# Altium footprint library Crystals.PcbLib: 10 footprints
Each footprint in its own frame and in the unit in brackets; x right, y up, seen from the top. Pads: shape width x height; smd on the part's side, far side on the other; paste and mask are expansions set on the pad; w line width, h text height; cw(c..) or ccw(c..) is an arc to the next point about the centre after c.
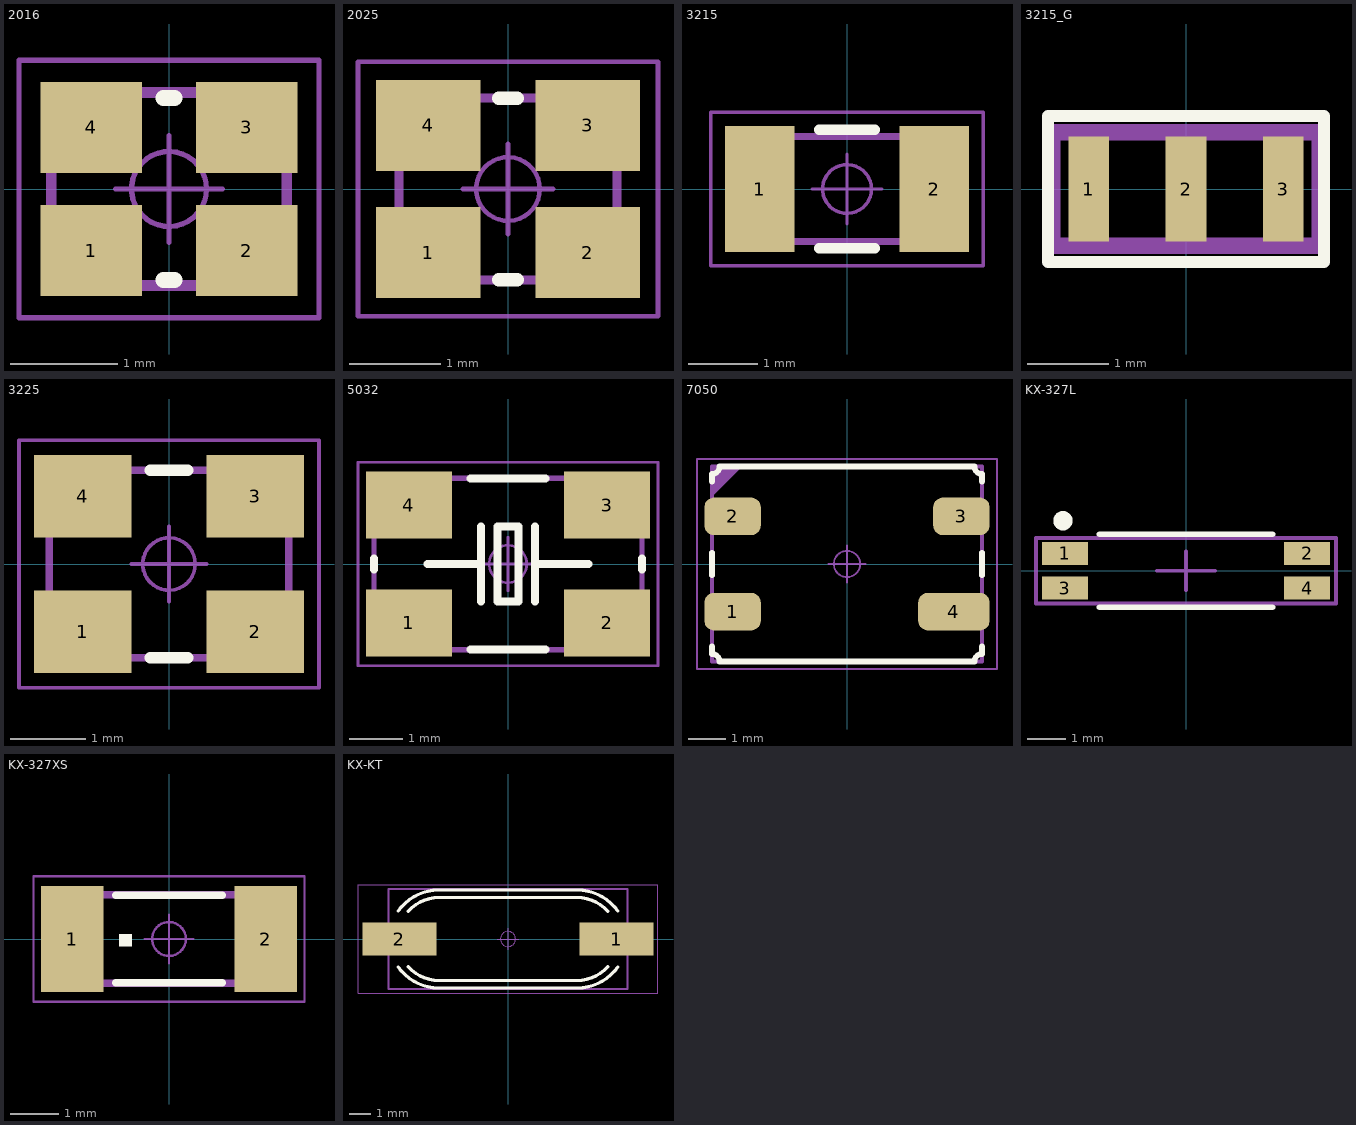
[diagram p0: the footprints below, top view; thin cyan lines are the x and y axes]

## 2016 [mm] "Crystal 2.0 x 1.6 mm"
height 0.5
pads (4):
  rect 0.95x0.85 smd: 1(-0.725,-0.575) 2(0.725,-0.575) 3(0.725,0.575) 4(-0.725,0.575)
Top Overlay:
  lines w0.15: -0.05,-0.85 0.05,-0.85 ; -0.05,0.85 0.05,0.85
Mechanical 14:
  region: -1.1,-0.9 -0.3,-0.9 -1.1,-0.1
  lines w0.1: -1.1,-0.9 1.1,-0.9 1.1,0.9 -1.1,0.9 -1.1,-0.9
  text ".Designator" at -0.7,-0.2 h0.5
Mechanical 15:
  circle w0.05: c0,0 r0.35
  lines w0.05: -0.5,0 0.5,0 ; 0,-0.5 0,0.5 ; -1.4,-1.2 -1.4,1.2 1.4,1.2 1.4,-1.2 -1.4,-1.2
3D body "User Library-GeyerElectronics_KX5.step": height 0.56, standoff 0, extent -1.05,-0.85 1.05,0.85

## 2025 [mm]
pads (4):
  rect 1.15x1 smd: 1(-0.875,-0.7) 2(0.875,-0.7) 3(0.875,0.7) 4(-0.875,0.7)
Top Overlay:
  lines w0.15: -0.1,-1 0.1,-1 ; -0.1,1 0.1,1
Mechanical 14:
  region: -1.2,-1 -0.4,-1 -1.2,-0.2
  lines w0.1: -1.2,-1 -1.2,1 1.2,1 1.2,-1 -1.2,-1
  text ".Designator" at -0.8,-0.3 h0.6
Mechanical 15:
  circle w0.05: c0,0 r0.35
  lines w0.05: -0.5,0 0.5,0 ; 0,-0.5 0,0.5 ; -1.65,-1.4 -1.65,1.4 1.65,1.4 1.65,-1.4 -1.65,-1.4
3D body "2520.step": height 0.55, standoff 0, extent -1.25,-1 1.25,1

## 3215 [mm]
pads (2):
  rect 1x1.8 smd: 1(-1.25,0) 2(1.25,0)
Top Overlay:
  lines w0.15: -0.4,-0.85 0.4,-0.85 ; -0.4,0.85 0.4,0.85
Mechanical 14:
  lines w0.1: -1.6,-0.55 cw(c-1.6,-0.75) -1.4,-0.75 1.4,-0.75 cw(c1.6,-0.75) 1.6,-0.55 1.6,0.55 cw(c1.6,0.75) 1.4,0.75 -1.4,0.75 cw(c-1.6,0.75) -1.6,0.55 -1.6,-0.55
  text ".Designator" at -0.8,-0.35 h0.7
Mechanical 15:
  circle w0.05: c0,0 r0.35
  lines w0.05: -0.5,0 0.5,0 ; 0,-0.5 0,0.5 ; -1.95,-1.1 -1.95,1.1 1.95,1.1 1.95,-1.1 -1.95,-1.1
3D body "User Library-Siward_SX3215.step": height 0.81, standoff 0, extent -1.6,-0.75 1.6,0.75

## 3215_G [mm] "Murata crystal built-in capacitors"
height 0.7
pads (3):
  rect 0.5x1.3 smd: 1(-1.2,0) 2(0,0) 3(1.2,0)
Top Overlay:
  lines w0.15: -1.7,-0.9 -1.7,0.9 1.7,0.9 1.7,-0.9 -1.7,-0.9
Mechanical 14:
  lines w0.2: -1.65,-0.7 -1.65,0.7 1.65,0.7 1.65,-0.7 -1.65,-0.7
  text ".Designator" at -0.8,-0.25 h0.7
3D body "Crystal 3213.stp": height 0.7, standoff -0.01, extent -1.6,-0.67 1.6,0.67

## 3225 [mm]
pads (4):
  rect 1.3x1.1 smd: 1(-1.15,-0.9) 2(1.15,-0.9) 3(1.15,0.9) 4(-1.15,0.9)
Top Overlay:
  lines w0.15: -0.25,-1.25 0.25,-1.25 ; -0.25,1.25 0.25,1.25
Mechanical 14:
  region: -1.6,-1.25 -0.8,-1.25 -1.6,-0.45
  lines w0.1: -1.6,-1.25 1.6,-1.25 1.6,1.25 -1.6,1.25 -1.6,-1.25
  text ".Designator" at -0.8,-0.3 h0.6
Mechanical 15:
  circle w0.05: c0,0 r0.35
  lines w0.05: -0.5,0 0.5,0 ; 0,-0.5 0,0.5 ; -2,-1.65 2,-1.65 2,1.65 -2,1.65 -2,-1.65
3D body "GeyerElectronics_KX7.step": height 0.81, standoff 0, extent -1.607,-1.25 1.607,1.25

## 5032 [mm]
pads (4):
  rect 1.6x1.25 smd: 1(-1.85,-1.1) 2(1.85,-1.1) 3(1.85,1.1) 4(-1.85,1.1)
Top Overlay:
  lines w0.15: -2.5,-0.1 -2.5,0.1 ; -1.5,0 -0.5,0 ; -0.7,-1.6 0.7,-1.6 ; -0.7,1.6 0.7,1.6 ; -0.5,-0.7 -0.5,0.7 ; 0.5,-0.7 0.5,0.7 ; 0.5,0 1.5,0 ; 2.5,-0.1 2.5,0.1 ; -0.2,-0.7 0.2,-0.7 0.2,0.7 -0.2,0.7 -0.2,-0.7
Mechanical 14:
  region: -2.5,-1.6 -1.7,-1.6 -2.5,-0.8
  lines w0.1: -2.5,-1.6 2.5,-1.6 2.5,1.6 -2.5,1.6 -2.5,-1.6
  text ".Designator" at -1.4,-0.4 h0.75
Mechanical 15:
  circle w0.05: c0,0 r0.35
  lines w0.05: -0.5,0 0.5,0 ; 0,-0.5 0,0.5 ; -2.8,-1.9 2.8,-1.9 2.8,1.9 -2.8,1.9 -2.8,-1.9
3D body "KX9A.STEP": height 1.01, standoff 0, extent -2.5,-1.6 2.5,1.6

## 7050 [mm] "Crystal resonator"
pads (4):
  rrect50% 1.5x1 smd: 1(-3.05,-1.27) 2(-3.05,1.27) 3(3.05,1.27)
  rrect50% 1.9x1 smd: 4(2.85,-1.27)
Top Overlay:
  lines w0.15: -3.6,-2.2 -3.6,-2.4 cw(c-3.6,-2.6) -3.4,-2.6 3.4,-2.6 cw(c3.6,-2.6) 3.6,-2.4 3.6,-2.2 ; -3.6,-0.3 -3.6,0.3 ; -3.6,2.2 -3.6,2.4 ccw(c-3.6,2.6) -3.4,2.6 3.4,2.6 ccw(c3.6,2.6) 3.6,2.4 3.6,2.2 ; 3.6,-0.3 3.6,0.3
Mechanical 14:
  region: -3.6,2.6 -3.6,1.8 -2.8,2.6
  lines w0.1: -3.6,-2.6 3.6,-2.6 3.6,2.6 -3.6,2.6 -3.6,-2.6
  text ".Designator" at -1.4,-0.35 h0.75
Mechanical 15:
  circle w0.05: c0,0 r0.35
  lines w0.05: -0.5,0 0.5,0 ; 0,-0.5 0,0.5 ; -4,-2.8 -4,2.8 4,2.8 4,-2.8 -4,-2.8
3D body "ABMM.STEP": height 1.3, standoff 0, extent -3.594,-2.604 3.594,2.603

## KX-327L [mm] "GEYER 4pin crystal case, 7*1.5mm"
height 1.4
pads (4):
  rect 1.2x0.6 smd: 1(-3.15,0.45) 2(3.15,0.45) 3(-3.15,-0.45) 4(3.15,-0.45)
Top Overlay:
  circle w0.3: c-3.2,1.3 r0.1
  lines w0.15: -2.25,-0.95 2.25,-0.95 ; -2.25,0.95 2.25,0.95
Mechanical 14:
  lines w0.1: -0.75,0 0,0 ; 0,-0.5 0,0 ; 0,0.5 0,0 ; 0.75,0 0,0 ; -3.9,-0.85 3.9,-0.85 3.9,0.85 -3.9,0.85 -3.9,-0.85
  text ".Designator" at -1.8,-0.2 h0.6
3D body "Crystal KX-327LT.step": height 1.4, standoff 0, extent -3.45,-0.75 3.45,0.75

## KX-327XS [mm]
pads (2):
  rect 1.3x2.2 smd: 1(-2,0) 2(2,0)
Top Overlay:
  region: -1.025,-0.15 -0.775,-0.15 -0.775,0.1 -1.025,0.1
  lines w0.154: -1.1,-0.9 1.1,-0.9 ; -1.1,0.9 1.1,0.9
Mechanical 14:
  lines w0.154: -2.475,-0.91 -2.475,0.91 2.475,0.91 2.475,-0.91 -2.475,-0.91
  text ".Designator" at -1.7,-0.4 h0.75
Mechanical 15:
  circle w0.05: c0,0 r0.35
  lines w0.05: -0.5,0 0.5,0 ; 0,-0.5 0,0.5 ; -2.8,-1.3 -2.8,1.3 2.8,1.3 2.8,-1.3 -2.8,-1.3
3D body: height 1, standoff 0, extent -2.5,-0.9 2.5,0.9

## KX-KT [mm]
height 5
pads (2):
  rect 3.4x1.5 smd: 1(5,0) 2(-5,0)
Top Overlay:
  lines w0.152: -5.043,-1.291 ccw(c-3.2,0) -3.2,-2.25 3.151,-2.25 ; -5.043,1.291 cw(c-3.2,0) -3.2,2.25 ; -4.591,-1.275 ccw(c-3.175,0) -3.175,-1.905 3.175,-1.905 ccw(c3.175,0) 4.591,-1.275 ; -4.591,1.275 cw(c-3.175,0) -3.175,1.905 3.175,1.905 cw(c3.175,0) 4.591,1.275 ; -3.177,2.25 3.175,2.25 ; 3.2,-2.25 ccw(c3.2,0) 5.043,-1.291 ; 3.2,2.25 cw(c3.2,0) 5.043,1.291
Mechanical 14:
  lines w0.1: -5.5,-2.3 5.5,-2.3 5.5,2.3 -5.5,2.3 -5.5,-2.3
  text ".Designator" at -2,-0.5 h1
Mechanical 15:
  circle w0.05: c0,0 r0.35
  lines w0.05: -0.5,0 0.5,0 ; 0,-0.5 0,0.5 ; -6.9,-2.5 -6.9,2.5 6.9,2.5 6.9,-2.5 -6.9,-2.5
3D body "User Library-SMU4.STEP": height 4, standoff 0, extent -6.25,-2.4 6.25,2.4